# Altium schematic symbol library SCH - MCU - INFINEON - INFINEON S6E2GM8J0XXV2 LQFP-176.SchLib: 1 symbol
Pins are listed as number, name and electrical type; pins without a type are passive.

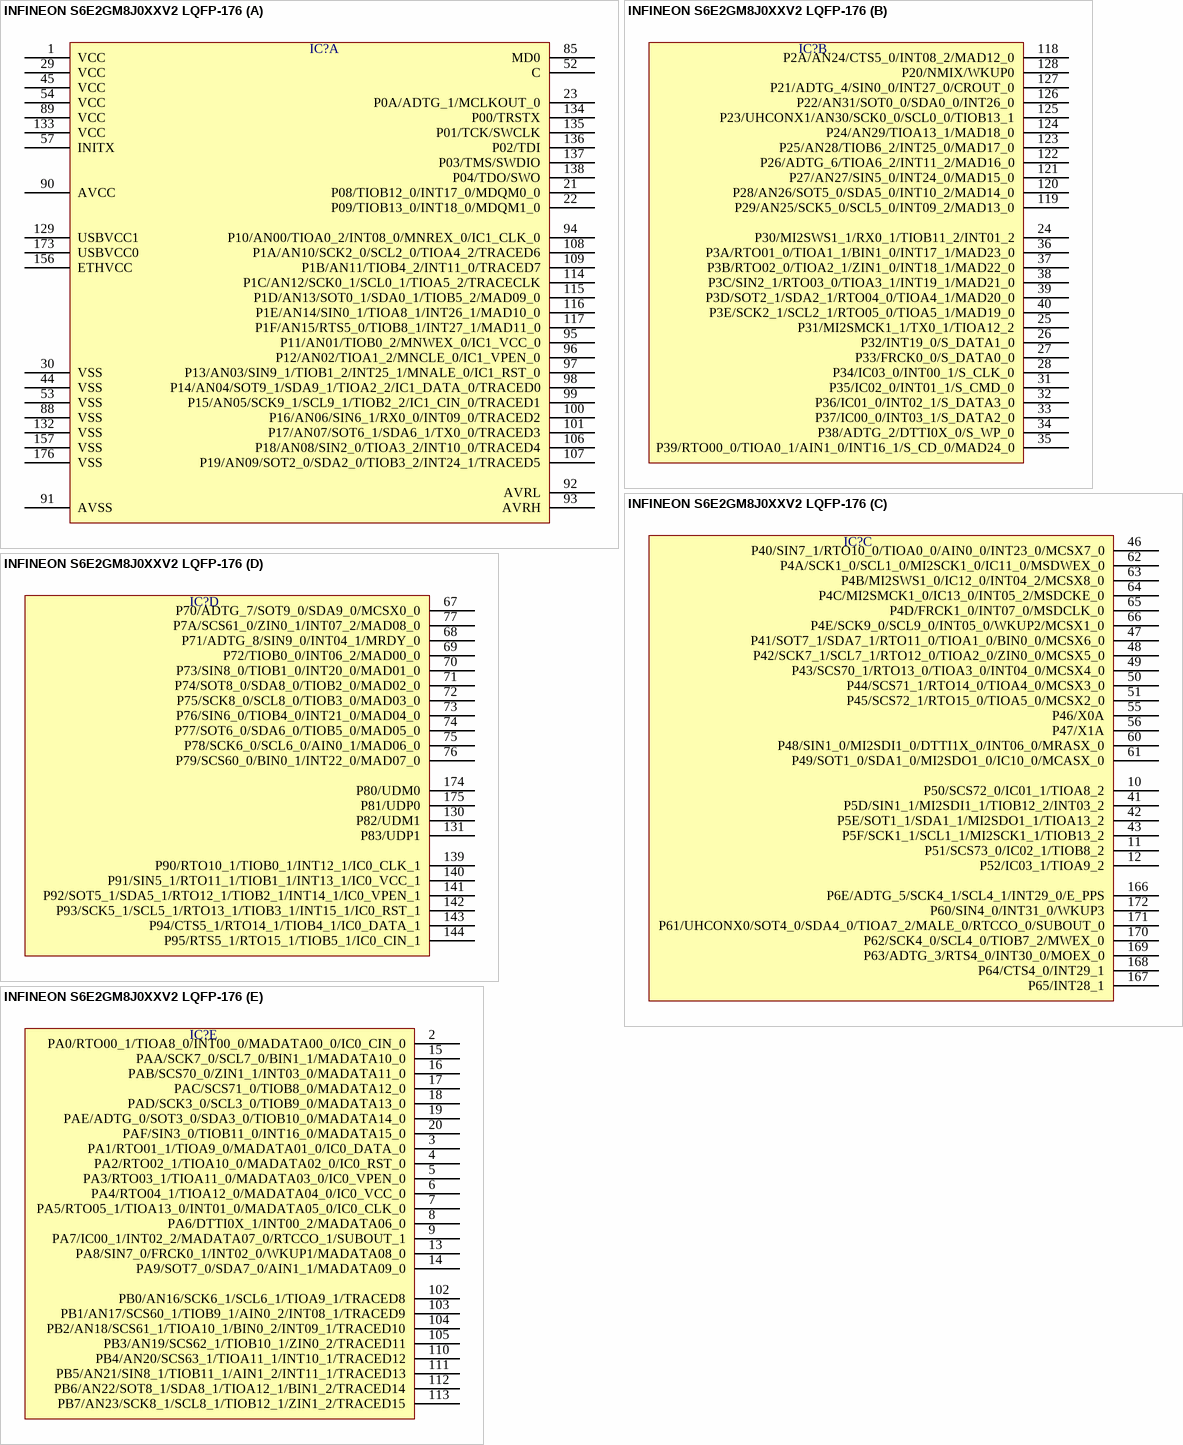
[diagram p0: symbol INFINEON S6E2GM8J0XXV2 LQFP-176]

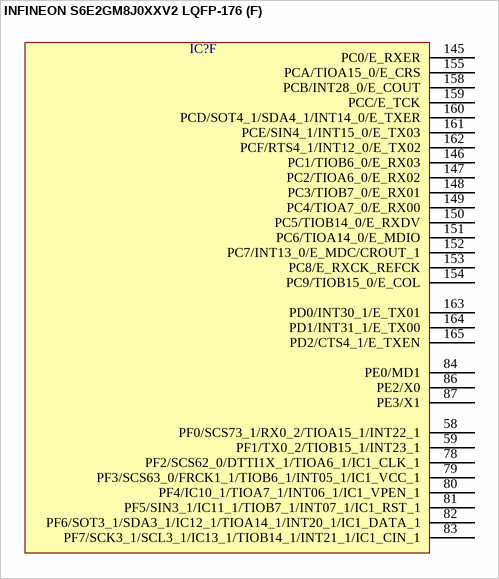
[diagram p1: symbol INFINEON S6E2GM8J0XXV2 LQFP-176]

## INFINEON S6E2GM8J0XXV2 LQFP-176
designator IC?  (value not drawn)
part A pins: 1 VCC, 21 P08/TIOB12_0/INT17_0/MDQM0_0, 22 P09/TIOB13_0/INT18_0/MDQM1_0, 23 P0A/ADTG_1/MCLKOUT_0, 29 VCC, 30 VSS, 44 VSS, 45 VCC, 52 C, 53 VSS, 54 VCC, 57 INITX, 85 MD0, 88 VSS, 89 VCC, 90 AVCC, 91 AVSS, 92 AVRL, 93 AVRH, 94 P10/AN00/TIOA0_2/INT08_0/MNREX_0/IC1_CLK_0, 95 P11/AN01/TIOB0_2/MNWEX_0/IC1_VCC_0, 96 P12/AN02/TIOA1_2/MNCLE_0/IC1_VPEN_0, 97 P13/AN03/SIN9_1/TIOB1_2/INT25_1/MNALE_0/IC1_RST_0, 98 P14/AN04/SOT9_1/SDA9_1/TIOA2_2/IC1_DATA_0/TRACED0, 99 P15/AN05/SCK9_1/SCL9_1/TIOB2_2/IC1_CIN_0/TRACED1, 100 P16/AN06/SIN6_1/RX0_0/INT09_0/TRACED2, 101 P17/AN07/SOT6_1/SDA6_1/TX0_0/TRACED3, 106 P18/AN08/SIN2_0/TIOA3_2/INT10_0/TRACED4, 107 P19/AN09/SOT2_0/SDA2_0/TIOB3_2/INT24_1/TRACED5, 108 P1A/AN10/SCK2_0/SCL2_0/TIOA4_2/TRACED6, 109 P1B/AN11/TIOB4_2/INT11_0/TRACED7, 114 P1C/AN12/SCK0_1/SCL0_1/TIOA5_2/TRACECLK, 115 P1D/AN13/SOT0_1/SDA0_1/TIOB5_2/MAD09_0, 116 P1E/AN14/SIN0_1/TIOA8_1/INT26_1/MAD10_0, 117 P1F/AN15/RTS5_0/TIOB8_1/INT27_1/MAD11_0, 129 USBVCC1, 132 VSS, 133 VCC, 134 P00/TRSTX, 135 P01/TCK/SWCLK, 136 P02/TDI, 137 P03/TMS/SWDIO, 138 P04/TDO/SWO, 156 ETHVCC, 157 VSS, 173 USBVCC0, 176 VSS
part B pins: 24 P30/MI2SWS1_1/RX0_1/TIOB11_2/INT01_2, 25 P31/MI2SMCK1_1/TX0_1/TIOA12_2, 26 P32/INT19_0/S_DATA1_0, 27 P33/FRCK0_0/S_DATA0_0, 28 P34/IC03_0/INT00_1/S_CLK_0, 31 P35/IC02_0/INT01_1/S_CMD_0, 32 P36/IC01_0/INT02_1/S_DATA3_0, 33 P37/IC00_0/INT03_1/S_DATA2_0, 34 P38/ADTG_2/DTTI0X_0/S_WP_0, 35 P39/RTO00_0/TIOA0_1/AIN1_0/INT16_1/S_CD_0/MAD24_0, 36 P3A/RTO01_0/TIOA1_1/BIN1_0/INT17_1/MAD23_0, 37 P3B/RTO02_0/TIOA2_1/ZIN1_0/INT18_1/MAD22_0, 38 P3C/SIN2_1/RTO03_0/TIOA3_1/INT19_1/MAD21_0, 39 P3D/SOT2_1/SDA2_1/RTO04_0/TIOA4_1/MAD20_0, 40 P3E/SCK2_1/SCL2_1/RTO05_0/TIOA5_1/MAD19_0, 118 P2A/AN24/CTS5_0/INT08_2/MAD12_0, 119 P29/AN25/SCK5_0/SCL5_0/INT09_2/MAD13_0, 120 P28/AN26/SOT5_0/SDA5_0/INT10_2/MAD14_0, 121 P27/AN27/SIN5_0/INT24_0/MAD15_0, 122 P26/ADTG_6/TIOA6_2/INT11_2/MAD16_0, 123 P25/AN28/TIOB6_2/INT25_0/MAD17_0, 124 P24/AN29/TIOA13_1/MAD18_0, 125 P23/UHCONX1/AN30/SCK0_0/SCL0_0/TIOB13_1, 126 P22/AN31/SOT0_0/SDA0_0/INT26_0, 127 P21/ADTG_4/SIN0_0/INT27_0/CROUT_0, 128 P20/NMIX/WKUP0
part C pins: 10 P50/SCS72_0/IC01_1/TIOA8_2, 11 P51/SCS73_0/IC02_1/TIOB8_2, 12 P52/IC03_1/TIOA9_2, 41 P5D/SIN1_1/MI2SDI1_1/TIOB12_2/INT03_2, 42 P5E/SOT1_1/SDA1_1/MI2SDO1_1/TIOA13_2, 43 P5F/SCK1_1/SCL1_1/MI2SCK1_1/TIOB13_2, 46 P40/SIN7_1/RTO10_0/TIOA0_0/AIN0_0/INT23_0/MCSX7_0, 47 P41/SOT7_1/SDA7_1/RTO11_0/TIOA1_0/BIN0_0/MCSX6_0, 48 P42/SCK7_1/SCL7_1/RTO12_0/TIOA2_0/ZIN0_0/MCSX5_0, 49 P43/SCS70_1/RTO13_0/TIOA3_0/INT04_0/MCSX4_0, 50 P44/SCS71_1/RTO14_0/TIOA4_0/MCSX3_0, 51 P45/SCS72_1/RTO15_0/TIOA5_0/MCSX2_0, 55 P46/X0A, 56 P47/X1A, 60 P48/SIN1_0/MI2SDI1_0/DTTI1X_0/INT06_0/MRASX_0, 61 P49/SOT1_0/SDA1_0/MI2SDO1_0/IC10_0/MCASX_0, 62 P4A/SCK1_0/SCL1_0/MI2SCK1_0/IC11_0/MSDWEX_0, 63 P4B/MI2SWS1_0/IC12_0/INT04_2/MCSX8_0, 64 P4C/MI2SMCK1_0/IC13_0/INT05_2/MSDCKE_0, 65 P4D/FRCK1_0/INT07_0/MSDCLK_0, 66 P4E/SCK9_0/SCL9_0/INT05_0/WKUP2/MCSX1_0, 166 P6E/ADTG_5/SCK4_1/SCL4_1/INT29_0/E_PPS, 167 P65/INT28_1, 168 P64/CTS4_0/INT29_1, 169 P63/ADTG_3/RTS4_0/INT30_0/MOEX_0, 170 P62/SCK4_0/SCL4_0/TIOB7_2/MWEX_0, 171 P61/UHCONX0/SOT4_0/SDA4_0/TIOA7_2/MALE_0/RTCCO_0/SUBOUT_0, 172 P60/SIN4_0/INT31_0/WKUP3
part D pins: 67 P70/ADTG_7/SOT9_0/SDA9_0/MCSX0_0, 68 P71/ADTG_8/SIN9_0/INT04_1/MRDY_0, 69 P72/TIOB0_0/INT06_2/MAD00_0, 70 P73/SIN8_0/TIOB1_0/INT20_0/MAD01_0, 71 P74/SOT8_0/SDA8_0/TIOB2_0/MAD02_0, 72 P75/SCK8_0/SCL8_0/TIOB3_0/MAD03_0, 73 P76/SIN6_0/TIOB4_0/INT21_0/MAD04_0, 74 P77/SOT6_0/SDA6_0/TIOB5_0/MAD05_0, 75 P78/SCK6_0/SCL6_0/AIN0_1/MAD06_0, 76 P79/SCS60_0/BIN0_1/INT22_0/MAD07_0, 77 P7A/SCS61_0/ZIN0_1/INT07_2/MAD08_0, 130 P82/UDM1, 131 P83/UDP1, 139 P90/RTO10_1/TIOB0_1/INT12_1/IC0_CLK_1, 140 P91/SIN5_1/RTO11_1/TIOB1_1/INT13_1/IC0_VCC_1, 141 P92/SOT5_1/SDA5_1/RTO12_1/TIOB2_1/INT14_1/IC0_VPEN_1, 142 P93/SCK5_1/SCL5_1/RTO13_1/TIOB3_1/INT15_1/IC0_RST_1, 143 P94/CTS5_1/RTO14_1/TIOB4_1/IC0_DATA_1, 144 P95/RTS5_1/RTO15_1/TIOB5_1/IC0_CIN_1, 174 P80/UDM0, 175 P81/UDP0
part E pins: 2 PA0/RTO00_1/TIOA8_0/INT00_0/MADATA00_0/IC0_CIN_0, 3 PA1/RTO01_1/TIOA9_0/MADATA01_0/IC0_DATA_0, 4 PA2/RTO02_1/TIOA10_0/MADATA02_0/IC0_RST_0, 5 PA3/RTO03_1/TIOA11_0/MADATA03_0/IC0_VPEN_0, 6 PA4/RTO04_1/TIOA12_0/MADATA04_0/IC0_VCC_0, 7 PA5/RTO05_1/TIOA13_0/INT01_0/MADATA05_0/IC0_CLK_0, 8 PA6/DTTI0X_1/INT00_2/MADATA06_0, 9 PA7/IC00_1/INT02_2/MADATA07_0/RTCCO_1/SUBOUT_1, 13 PA8/SIN7_0/FRCK0_1/INT02_0/WKUP1/MADATA08_0, 14 PA9/SOT7_0/SDA7_0/AIN1_1/MADATA09_0, 15 PAA/SCK7_0/SCL7_0/BIN1_1/MADATA10_0, 16 PAB/SCS70_0/ZIN1_1/INT03_0/MADATA11_0, 17 PAC/SCS71_0/TIOB8_0/MADATA12_0, 18 PAD/SCK3_0/SCL3_0/TIOB9_0/MADATA13_0, 19 PAE/ADTG_0/SOT3_0/SDA3_0/TIOB10_0/MADATA14_0, 20 PAF/SIN3_0/TIOB11_0/INT16_0/MADATA15_0, 102 PB0/AN16/SCK6_1/SCL6_1/TIOA9_1/TRACED8, 103 PB1/AN17/SCS60_1/TIOB9_1/AIN0_2/INT08_1/TRACED9, 104 PB2/AN18/SCS61_1/TIOA10_1/BIN0_2/INT09_1/TRACED10, 105 PB3/AN19/SCS62_1/TIOB10_1/ZIN0_2/TRACED11, 110 PB4/AN20/SCS63_1/TIOA11_1/INT10_1/TRACED12, 111 PB5/AN21/SIN8_1/TIOB11_1/AIN1_2/INT11_1/TRACED13, 112 PB6/AN22/SOT8_1/SDA8_1/TIOA12_1/BIN1_2/TRACED14, 113 PB7/AN23/SCK8_1/SCL8_1/TIOB12_1/ZIN1_2/TRACED15
part F pins: 58 PF0/SCS73_1/RX0_2/TIOA15_1/INT22_1, 59 PF1/TX0_2/TIOB15_1/INT23_1, 78 PF2/SCS62_0/DTTI1X_1/TIOA6_1/IC1_CLK_1, 79 PF3/SCS63_0/FRCK1_1/TIOB6_1/INT05_1/IC1_VCC_1, 80 PF4/IC10_1/TIOA7_1/INT06_1/IC1_VPEN_1, 81 PF5/SIN3_1/IC11_1/TIOB7_1/INT07_1/IC1_RST_1, 82 PF6/SOT3_1/SDA3_1/IC12_1/TIOA14_1/INT20_1/IC1_DATA_1, 83 PF7/SCK3_1/SCL3_1/IC13_1/TIOB14_1/INT21_1/IC1_CIN_1, 84 PE0/MD1, 86 PE2/X0, 87 PE3/X1, 145 PC0/E_RXER, 146 PC1/TIOB6_0/E_RX03, 147 PC2/TIOA6_0/E_RX02, 148 PC3/TIOB7_0/E_RX01, 149 PC4/TIOA7_0/E_RX00, 150 PC5/TIOB14_0/E_RXDV, 151 PC6/TIOA14_0/E_MDIO, 152 PC7/INT13_0/E_MDC/CROUT_1, 153 PC8/E_RXCK_REFCK, 154 PC9/TIOB15_0/E_COL, 155 PCA/TIOA15_0/E_CRS, 158 PCB/INT28_0/E_COUT, 159 PCC/E_TCK, 160 PCD/SOT4_1/SDA4_1/INT14_0/E_TXER, 161 PCE/SIN4_1/INT15_0/E_TX03, 162 PCF/RTS4_1/INT12_0/E_TX02, 163 PD0/INT30_1/E_TX01, 164 PD1/INT31_1/E_TX00, 165 PD2/CTS4_1/E_TXEN